# EAGLE library part PINHEAD-7 (library Header)
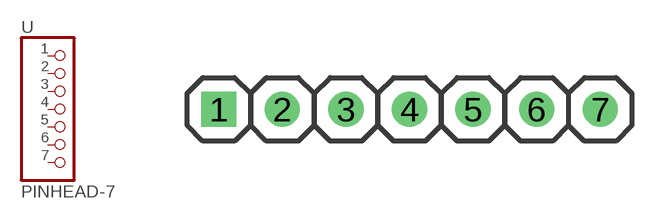
[diagram p1: symbol with the pads of PINHEAD-7; footprint PINHEAD-7]

Designator prefix -

## PINHEAD-7  [PINHEAD-7]
1  1  pas
2  2  pas
3  3  pas
4  4  pas
5  5  pas
6  6  pas
7  7  pas

## Footprint PINHEAD-7 (pad centres in mm)
drill 0.9 square: 1 0,0
drill 0.9: 2 2.54,0; 3 5.08,0; 4 7.62,0; 5 10.16,0; 6 12.7,0; 7 15.24,0